# EAGLE library part MCP79412-I/SN (library imported-parts)
RTCC, I2C, 1K EE, 64B SRAM, 8SOIC
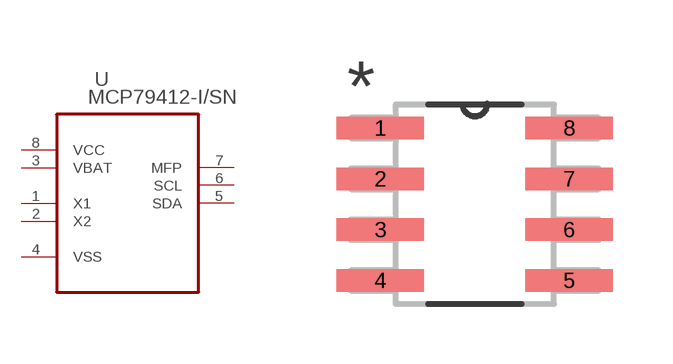
[diagram p1: symbol with the pads of SOIC127P600X175-8N; footprint SOIC127P600X175-8N]

Designator prefix U

## MCP79412-I/SN (MPN: MCP79412-I/SN; OC_FARNELL: 2103565; OC_NEWARK: 94T5863; PACKAGE: SOIC-8; SUPPLIER: Microchip)  [SOIC127P600X175-8N]
1  X1  in
2  X2  in
3  VBAT  pwr
4  VSS  pwr
5  SDA  pas
6  SCL  pas
7  MFP  pas
8  VCC  pwr

## Footprint SOIC127P600X175-8N (pad centres in mm)
smd 2.184 x 0.559: 1 -2.362,1.905; 2 -2.362,0.635; 3 -2.362,-0.635; 4 -2.362,-1.905; 5 2.362,-1.905; 6 2.362,-0.635; 7 2.362,0.635; 8 2.362,1.905